# EAGLE library part COMPUTE_PI (library Compute_Pi)
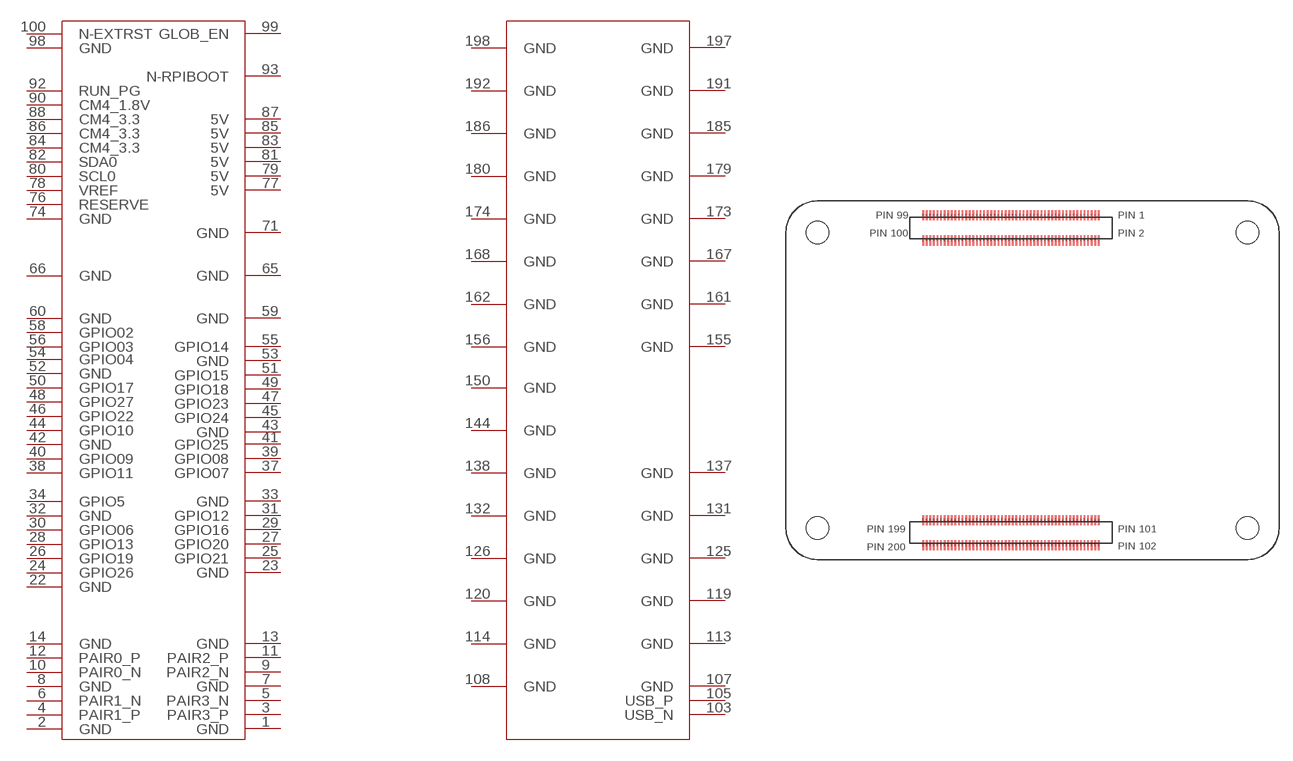
[diagram p0: symbol with the pads of COMPUTE_PI; footprint COMPUTE_PI]

Designator prefix -; gates G$1=COMPUTE_1-100 G$2=COMPUTE_101-200

## COMPUTE_PI  [COMPUTE_PI]
1  G$1:GND
2  G$1:GND
3  G$1:PAIR3_P
4  G$1:PAIR1_P
5  G$1:PAIR3_N
6  G$1:PAIR1_N
7  G$1:GND
8  G$1:GND
9  G$1:PAIR2_N
10  G$1:PAIR0_N
11  G$1:PAIR2_P
12  G$1:PAIR0_P
13  G$1:GND
14  G$1:GND
22  G$1:GND
23  G$1:GND
24  G$1:GPIO26
25  G$1:GPIO21
26  G$1:GPIO19
27  G$1:GPIO20
28  G$1:GPIO13
29  G$1:GPIO16
30  G$1:GPIO06
31  G$1:GPIO12
32  G$1:GND
33  G$1:GND
34  G$1:GPIO5
37  G$1:GPIO07
38  G$1:GPIO11
39  G$1:GPIO08
40  G$1:GPIO09
41  G$1:GPIO25
42  G$1:GND
43  G$1:GND
44  G$1:GPIO10
45  G$1:GPIO24
46  G$1:GPIO22
47  G$1:GPIO23
48  G$1:GPIO27
49  G$1:GPIO18
50  G$1:GPIO17
51  G$1:GPIO15
52  G$1:GND
53  G$1:GND
54  G$1:GPIO04
55  G$1:GPIO14
56  G$1:GPIO03
58  G$1:GPIO02
59  G$1:GND
60  G$1:GND
65  G$1:GND
66  G$1:GND
71  G$1:GND
74  G$1:GND
76  G$1:RESERVE
77  G$1:5V
78  G$1:VREF
79  G$1:5V
80  G$1:SCL0
81  G$1:5V
82  G$1:SDA0
83  G$1:5V
84  G$1:CM4_3.3
85  G$1:5V
86  G$1:CM4_3.3
87  G$1:5V
88  G$1:CM4_3.3
90  G$1:CM4_1.8V
92  G$1:RUN_PG
93  G$1:N-RPIBOOT
98  G$1:GND
99  G$1:GLOB_EN
100  G$1:N-EXTRST
103  G$2:USB_N
105  G$2:USB_P
107  G$2:GND
108  G$2:GND
113  G$2:GND
114  G$2:GND
119  G$2:GND
120  G$2:GND
125  G$2:GND
126  G$2:GND
131  G$2:GND
132  G$2:GND
137  G$2:GND
138  G$2:GND
144  G$2:GND
150  G$2:GND
155  G$2:GND
156  G$2:GND
161  G$2:GND
162  G$2:GND
167  G$2:GND
168  G$2:GND
173  G$2:GND
174  G$2:GND
179  G$2:GND
180  G$2:GND
185  G$2:GND
186  G$2:GND
191  G$2:GND
192  G$2:GND
197  G$2:GND
198  G$2:GND

## Footprint COMPUTE_PI (pad centres in mm)
smd 0.2 x 1.14: 1 34.9,38.4; 2 34.9,35.6; 3 34.5,38.4; 4 34.5,35.6; 5 34.1,38.4; 6 34.1,35.6; 7 33.7,38.4; 8 33.7,35.6; 9 33.3,38.4; 10 33.3,35.6; 11 32.9,38.4; 12 32.9,35.6; 13 32.5,38.4; 14 32.5,35.6; 15 32.1,38.4; 16 32.1,35.6; 17 31.7,38.4; 18 31.7,35.6; 19 31.3,38.4; 20 31.3,35.6; 21 30.9,38.4; 22 30.9,35.6; 23 30.5,38.4; 24 30.5,35.6; 25 30.1,38.4; 26 30.1,35.6; 27 29.7,38.4; 28 29.7,35.6; 29 29.3,38.4; 30 29.3,35.6; 31 28.9,38.4; 32 28.9,35.6; 33 28.5,38.4; 34 28.5,35.6; 35 28.1,38.4; 36 28.1,35.6; 37 27.7,38.4; 38 27.7,35.6; 39 27.3,38.4; 40 27.3,35.6; 41 26.9,38.4; 42 26.9,35.6; 43 26.5,38.4; 44 26.5,35.6; 45 26.1,38.4; 46 26.1,35.6; 47 25.7,38.4; 48 25.7,35.6; 49 25.3,38.4; 50 25.3,35.6; 51 24.9,38.4; 52 24.9,35.6; 53 24.5,38.4; 54 24.5,35.6; 55 24.1,38.4; 56 24.1,35.6; 57 23.7,38.4; 58 23.7,35.6; 59 23.3,38.4; 60 23.3,35.6; 61 22.9,38.4; 62 22.9,35.6; 63 22.5,38.4; 64 22.5,35.6; 65 22.1,38.4; 66 22.1,35.6; 67 21.7,38.4; 68 21.7,35.6; 69 21.3,38.4; 70 21.3,35.6; 71 20.9,38.4; 72 20.9,35.6; 73 20.5,38.4; 74 20.5,35.6; 75 20.1,38.4; 76 20.1,35.6; 77 19.7,38.4; 78 19.7,35.6; 79 19.3,38.4; 80 19.3,35.6; 81 18.9,38.4; 82 18.9,35.6; 83 18.5,38.4; 84 18.5,35.6; 85 18.1,38.4; 86 18.1,35.6; 87 17.7,38.4; 88 17.7,35.6; 89 17.3,38.4; 90 17.3,35.6; 91 16.9,38.4; 92 16.9,35.6; 93 16.5,38.4; 94 16.5,35.6; 95 16.1,38.4; 96 16.1,35.6; 97 15.7,38.4; 98 15.7,35.6; 99 15.3,38.4; 100 15.3,35.6; 101 34.9,4.4; 102 34.9,1.6; 103 34.5,4.4; 104 34.5,1.6; 105 34.1,4.4; 106 34.1,1.6; 107 33.7,4.4; 108 33.7,1.6; 109 33.3,4.4; 110 33.3,1.6; 111 32.9,4.4; 112 32.9,1.6; 113 32.5,4.4; 114 32.5,1.6; 115 32.1,4.4; 116 32.1,1.6; 117 31.7,4.4; 118 31.7,1.6; 119 31.3,4.4; 120 31.3,1.6; 121 30.9,4.4; 122 30.9,1.6; 123 30.5,4.4; 124 30.5,1.6; 125 30.1,4.4; 126 30.1,1.6; 127 29.7,4.4; 128 29.7,1.6; 129 29.3,4.4; 130 29.3,1.6; 131 28.9,4.4; 132 28.9,1.6; 133 28.5,4.4; 134 28.5,1.6; 135 28.1,4.4; 136 28.1,1.6; 137 27.7,4.4; 138 27.7,1.6; 139 27.3,4.4; 140 27.3,1.6; 141 26.9,4.4; 142 26.9,1.6; 143 26.5,4.4; 144 26.5,1.6; 145 26.1,4.4; 146 26.1,1.6; 147 25.7,4.4; 148 25.7,1.6; 149 25.3,4.4; 150 25.3,1.6; 151 24.9,4.4; 152 24.9,1.6; 153 24.5,4.4; 154 24.5,1.6; 155 24.1,4.4; 156 24.1,1.6; 157 23.7,4.4; 158 23.7,1.6; 159 23.3,4.4; 160 23.3,1.6; 161 22.9,4.4; 162 22.9,1.6; 163 22.5,4.4; 164 22.5,1.6; 165 22.1,4.4; 166 22.1,1.6; 167 21.7,4.4; 168 21.7,1.6; 169 21.3,4.4; 170 21.3,1.6; 171 20.9,4.4; 172 20.9,1.6; 173 20.5,4.4; 174 20.5,1.6; 175 20.1,4.4; 176 20.1,1.6; 177 19.7,4.4; 178 19.7,1.6; 179 19.3,4.4; 180 19.3,1.6; 181 18.9,4.4; 182 18.9,1.6; 183 18.5,4.4; 184 18.5,1.6; 185 18.1,4.4; 186 18.1,1.6; 187 17.7,4.4; 188 17.7,1.6; 189 17.3,4.4; 190 17.3,1.6; 191 16.9,4.4; 192 16.9,1.6; 193 16.5,4.4; 194 16.5,1.6; 195 16.1,4.4; 196 16.1,1.6; 197 15.7,4.4; 198 15.7,1.6; 199 15.3,4.4; 200 15.3,1.6
hole 2.5 at 3.5,3.5
hole 2.5 at 51.5,3.5
hole 2.5 at 51.5,36.5
hole 2.5 at 3.5,36.5